# Altium schematic symbol library BUTTONS - TACTILE.SchLib: 1 symbol
Pins are listed as number, name and electrical type; pins without a type are passive.

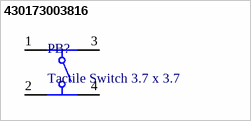
[diagram p0: symbol 430173003816]

## 430173003816
designator PB?, comment Tactile Switch 3.7 x 3.7
footprint 430173003816 (Footprint not found)
pins: 1, 2, 3, 4